# Altium schematic symbol library DANCE_LIB_REV2.SchLib: 136 symbols (part 1 of 2)
Pins are listed as number, name and electrical type; pins without a type are passive.

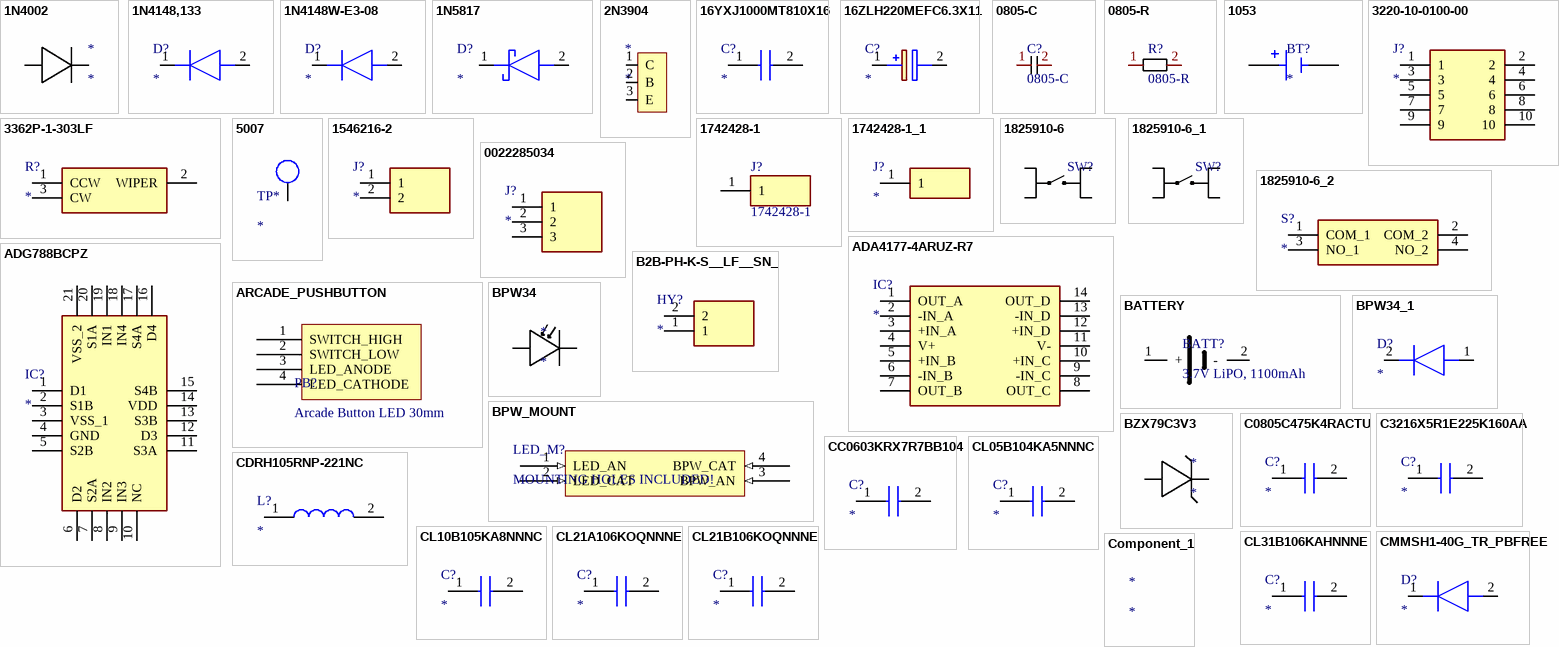
[diagram p0: symbols 1N4002 to Component_1]

## 1N4002
designator *
Diode Standard Recovery Rectifier DO-41, 100V, 1.00A; Manufacturer: Diotec; Manufacturer Part Number: 1N4002; Supplier 1: Digikey; RoHS: Yes; Category: Rectifier Diodes; Stock 1: 36425; Pricing 1: 1=0.1, 10=0.073, 100=0.0492, 500=0.04344, 1000=0.03835 (USD); Mount: Through Hole; Case/Package: 100; Min Operating Temperature: -50°C; Max Operating Temperature: 175°C; Polarity: Standard; Packaging: Ammo Pack; RoHS Compliant: Yes; ComponentLink1URL: https://datasheet.ciiva.com/26325/162221-da-01-ml-1n4002-silizium-diode-de-en-26325266.pdf?src-supplier=Conrad; ComponentLink1Description: https://datasheet.ciiva.com/26325/162221-da-01-ml-1n4002-silizium-diode-de-en-26325266.pdf?src-supplier=Conrad; ComponentLink2URL: https://datasheet.ciiva.com/18711/1n400x-eng-tds-18711213.pdf?src-supplier=Distrelec; ComponentLink2Description: https://datasheet.ciiva.com/18711/1n400x-eng-tds-18711213.pdf?src-supplier=Distrelec; Supplier Part Number 1: 4878-1N4002CT-ND
footprint DIODE
pins: 1, 2

## 1N4148,133
designator D?
Diode; Manufacturer_Name: Nexperia; Manufacturer_Part_Number: 1N4148,133; Datasheet Link: https://assets.nexperia.com/documents/data-sheet/1N4148_1N4448.pdf; Mouser Part Number: 771-1N4148,133; Mouser Price/Stock: https://www.mouser.co.uk/ProductDetail/Nexperia/1N4148133?qs=elmhQ6eFu7hy8ApvpFxPZg%3D%3D; Arrow Part Number: 1N4148,133; Arrow Price/Stock: https://www.arrow.com/en/products/1n4148133/nxp-semiconductors
footprint DIOAD1165W56L425D185
pins: 1 K, 2 A

## 1N4148W-E3-08
designator D?
Diode; Manufacturer_Name: Vishay; Manufacturer_Part_Number: 1N4148W-E3-08; Datasheet Link: http://www.vishay.com/docs/85748/1n4148w.pdf; Height: 1.35mm; Mouser Part Number: 78-1N4148W-E3-08; Mouser Price/Stock: https://www.mouser.co.uk/ProductDetail/Vishay-Semiconductors/1N4148W-E3-08?qs=bTzheeSci6TVjpxfjjRVMw%3D%3D; Arrow Part Number: 1N4148W-E3-08; Arrow Price/Stock: https://www.arrow.com/en/products/1n4148w-e3-08/vishay?utm_currency=USD&region=europe
footprint SOD3716X135N
pins: 1 K, 2 A

## 1N5817
designator D?
Schottky Diode; Manufacturer_Name: Rectron; Manufacturer_Part_Number: 1N5817; Datasheet Link: https://www.arrow.com/en/products/1n5817/rectron; Arrow Part Number: 1N5817; Arrow Price/Stock: https://www.arrow.com/en/products/1n5817/rectron?region=nac
footprint DIOAD1410W90L470D235
pins: 1 K, 2 A

## 2N3904
designator *
Small Signal Bipolar Transistor, 0.2A I(C), 40V V(BR)CEO, 1-Element, NPN, Silicon, TO-92; Manufacturer: Diotec; Manufacturer Part Number: 2N3904; Supplier 1: Digikey; RoHS: Yes; Category: BJTs; Pricing 1: 1=0.13, 10=0.078, 100=0.0478, 500=0.03448, 1000=0.03015, 2000=0.02649 (USD); Case/Package: TO-92; Weight: 336mg; Packaging: Ammo Pack; RoHS Compliant: Yes; ComponentLink1URL: http://datasheet.octopart.com/2N3904-Diotec-datasheet-20747533.pdf?src-supplier=Onlinecomponents.com; ComponentLink1Description: http://datasheet.octopart.com/2N3904-Diotec-datasheet-20747533.pdf?src-supplier=Onlinecomponents.com; ComponentLink2URL: http://datasheet.octopart.com/2N3904-Diotec-datasheet-20747533.pdf?src-supplier=Mouser; ComponentLink2Description: http://datasheet.octopart.com/2N3904-Diotec-datasheet-20747533.pdf?src-supplier=Mouser; ComponentLink3URL: http://datasheet.octopart.com/2N3904-Diotec-datasheet-20747533.pdf?src-supplier=Distrelec; ComponentLink3Description: http://datasheet.octopart.com/2N3904-Diotec-datasheet-20747533.pdf?src-supplier=Distrelec; ComponentLink4URL: http://datasheet.octopart.com/2N3904-Diotec-datasheet-20747533.pdf?src-supplier=Verical; ComponentLink4Description: http://datasheet.octopart.com/2N3904-Diotec-datasheet-20747533.pdf?src-supplier=Verical; ComponentLink5URL: https://datasheet.octopart.com/2N3904-Diotec-datasheet-113239676.pdf?src-supplier=TME; ComponentLink5Description: https://datasheet.octopart.com/2N3904-Diotec-datasheet-113239676.pdf?src-supplier=TME; ComponentLink6URL: http://datasheet.octopart.com/2N3904-Diotec-datasheet-20747533.pdf?src-supplier=DComponents; ComponentLink6Description: http://datasheet.octopart.com/2N3904-Diotec-datasheet-20747533.pdf?src-supplier=DComponents; ComponentLink7URL: https://datasheet.octopart.com/2N3904-Diotec-datasheet-168809475.pdf?src-supplier=SOS+electronic; ComponentLink7Description: https://datasheet.octopart.com/2N3904-Diotec-datasheet-168809475.pdf?src-supplier=SOS+electronic; ComponentLink8URL: http://datasheet.octopart.com/2N3904-Diotec-datasheet-20747533.pdf?src-supplier=Electro+Sonic; ComponentLink8Description: http://datasheet.octopart.com/2N3904-Diotec-datasheet-20747533.pdf?src-supplier=Electro+Sonic; Supplier Part Number 1: 4878-2N3904CT-ND
footprint NPN TRANSITOR
pins: 1 C, 2 B, 3 E

## 16YXJ1000MT810X16
designator C?
Capacitor; Manufacturer_Name: Rubycon; Manufacturer_Part_Number: 16YXJ1000MT810X16; Datasheet Link: https://4donline.ihs.com/images/VipMasterIC/IC/RUBY/RUBY-S-A0012706121/RUBY-S-A0012962284-1.pdf?hkey=EF798316E3902B6ED9A73243A3159BB0; Height: 17.5mm; Arrow Part Number: 16YXJ1000MT810X16; Arrow Price/Stock: null?utm_currency=USD&region=nac
footprint CAPPRD500W60D1025H1750
pins: 1 +, 2 -

## 16ZLH220MEFC6.3X11
designator C?
Capacitor Polarised; Manufacturer_Name: Rubycon; Manufacturer_Part_Number: 16ZLH220MEFC6.3X11; Datasheet Link: https://www.mouser.com/datasheet/2/977/e_ZLH-1601216.pdf; Height: 12.5mm; Mouser Part Number: 232-16ZLH220MEFC63X1; Mouser Price/Stock: https://www.mouser.co.uk/ProductDetail/Rubycon/16ZLH220MEFC6.3X11?qs=T3oQrply3y9dbIgPDRvJxA%3D%3D
footprint CAPPRD250W50D655H1250
pins: 1 +, 2 -

## 0805-C
designator C?
footprint SURFM CAPACITOR
pins: 1, 2

## 0805-R
designator R?
footprint SURFM RESISTOR
pins: 1, 2

## 1053
designator BT?
Battery Holder, Auto-In/EZ-Out, THM, Coin Cell, 24mm, Plastic, UL94V-0, Black | Keystone Electronics 1053; MP: 1053; SnapEDA_Link: https://www.snapeda.com/parts/1053/Keystone/view-part/?ref=snap; Package: Package; Value: *; MF: Keystone Electronics; Check_prices: https://www.snapeda.com/parts/1053/Keystone/view-part/?ref=eda
footprint BAT_1053
pins: N NEG, P POS

## 3220-10-0100-00
designator J?
Connector; Manufacturer_Name: CNC Tech; Manufacturer_Part_Number: 3220-10-0100-00; Datasheet Link: https://datasheet.datasheetarchive.com/originals/dk/DKDS-7/133059.pdf; Height: 5.6mm; Arrow Part Number: 3220-10-0100-00; Arrow Price/Stock: https://www.arrow.com/en/products/3220-10-0100-00/cnc-tech-llc?utm_currency=USD&region=nac
footprint 322010010000
pins: 1, 2, 3, 4, 5, 6, 7, 8, 9, 10

## 3362P-1-303LF
designator R?
Resistor; Manufacturer_Name: Bourns; Manufacturer_Part_Number: 3362P-1-303LF; Datasheet Link: https://datasheet.datasheetarchive.com/originals/distributors/SFDatasheet-6/sf-000139931.pdf; Mouser Part Number: 652-3362P-1-303LF; Mouser Price/Stock: https://www.mouser.co.uk/ProductDetail/Bourns/3362P-1-303LF?qs=Z6TheJuxhEr3uHsohP3p0g%3D%3D; Arrow Part Number: 3362P-1-303LF; Arrow Price/Stock: https://www.arrow.com/en/products/3362p-1-303lf/bourns
footprint 3362P_1
pins: 1 CCW, 2 WIPER, 3 CW

## 5007
designator TP*
MS27478 - Connectors Receptacle Electrical Solder Mounting Solder Type Hermetic Seal 38999 Series II; Manufacturer: Keystone Electronics; Manufacturer Part Number: 5007; Plating: Silver; Body Material: Bronze,PBT; Insulation: Insulated; Outside Diameter: 3.18mm; Inside Diameter: 1.78mm; Hole Diameter: 1.6mm; Supplier 1: Digikey; RoHS: Yes; Category: Connectors; Stock 1: 45397; Pricing 1: 1=0.39, 10=0.293, 25=0.2624, 100=0.2223, 500=0.18446, 1000=0.1739, 2500=0.1542, 5000=0.14312 (USD); Mount: PCB,Through Hole; Contact Material: Bronze; Contact Plating: Tin,Silver; Color: White; Material: Nylon,Bronze; Insulation Material: Nylon; Package Quantity: 100; Packaging: Bulk; Series: THM; Length: 8.89mm; Height: 0.35inch; Reach SVHC Compliant: No; Lead Free: Lead Free; Flammability Rating: UL94 V-0; RoHS Compliant: Yes; ComponentLink1URL: https://datasheet.ciiva.com/2917/m60-2p60-2917638.pdf?src-supplier=Digikey; ComponentLink1Description: https://datasheet.ciiva.com/2917/m60-2p60-2917638.pdf?src-supplier=Digikey; ComponentLink2URL: https://datasheet.ciiva.com/22631/1703983-22631109.pdf?src-supplier=Element14; ComponentLink2Description: https://datasheet.ciiva.com/22631/1703983-22631109.pdf?src-supplier=Element14; ComponentLink3URL: https://datasheet.ciiva.com/16884/70182825-16884255.pdf?src-supplier=Allied+Electronics; ComponentLink3Description: https://datasheet.ciiva.com/16884/70182825-16884255.pdf?src-supplier=Allied+Electronics; Supplier Part Number 1: 36-5007-ND
footprint TEST POINT
pins: 1

## 1546216-2
designator J?
Connector; Manufacturer_Name: TE Connectivity; Manufacturer_Part_Number: 1546216-2; Datasheet Link: https://www.te.com/commerce/DocumentDelivery/DDEController?Action=srchrtrv&DocNm=1-1773458-1_EURO_STYLE_QRG&DocType=Data%20Sheet&DocLang=English&PartCntxt=1546216-2&DocFormat=pdf; Height: 10mm; Mouser Part Number: 571-1546216-2; Mouser Price/Stock: https://www.mouser.co.uk/ProductDetail/TE-Connectivity/1546216-2?qs=Lxq28tKK6BMEq1xb2m0gjg%3D%3D; Arrow Part Number: 1546216-2; Arrow Price/Stock: https://www.arrow.com/en/products/1546216-2/te-connectivity?region=nac
footprint SHDR2W100P0X500_1X2_1000X820X1000P
pins: 1, 2

## 1742428-1
designator J?
Connector; Manufacturer_Name: TE Connectivity; Datasheet Link: https://www.te.com/commerce/DocumentDelivery/DDEController?Action=showdoc&DocId=Customer+Drawing%7F1742428%7FB%7Fpdf%7FEnglish%7FENG_CD_1742428_B_baseFilename.pdf%7F1742428-1; Height: 7.62mm; Manufacturer_Part_Number: 1742428-1; Mouser Part Number: 571-1742428-1; Mouser Price/Stock: https://www.mouser.co.uk/ProductDetail/TE-Connectivity-AMP/1742428-1?qs=%252BGGIKoiLAWkw3iMz3TrvdA%3D%3D; Arrow Part Number: 1742428-1; Arrow Price/Stock: https://www.arrow.com/en/products/1742428-1/te-connectivity?region=nac
footprint 17424281
footprint 17424281
pins: 1

## 1742428-1_1
designator J?
Connector; Manufacturer_Name: TE Connectivity; Manufacturer_Part_Number: 1742428-1; Datasheet Link: https://www.te.com/commerce/DocumentDelivery/DDEController?Action=showdoc&DocId=Customer+Drawing%7F1742428%7FB%7Fpdf%7FEnglish%7FENG_CD_1742428_B_baseFilename.pdf%7F1742428-1; Height: 7.62mm; Mouser Part Number: 571-1742428-1; Mouser Price/Stock: https://www.mouser.co.uk/ProductDetail/TE-Connectivity-AMP/1742428-1?qs=%252BGGIKoiLAWkw3iMz3TrvdA%3D%3D; Arrow Part Number: 1742428-1; Arrow Price/Stock: https://www.arrow.com/en/products/1742428-1/te-connectivity?region=nac
footprint 17424281
pins: 1

## 1825910-6
designator SW?  (value not drawn)
Switch Push Button OFF (ON) SPST Round Button 0.05A 24VDC Momentary Contact PC Pins Thru-Hole; MP: 1825910-6; MF: TE Connectivity; Value: *; Package: None; Check_prices: https://www.snapeda.com/parts/1825910-6/TE+Connectivity+ALCOSWITCH+Switches/view-part/?ref=eda; SnapEDA_Link: https://www.snapeda.com/parts/1825910-6/TE+Connectivity+ALCOSWITCH+Switches/view-part/?ref=snap; Digi-Key_Part_Number: 450-1650-ND; Purchase-URL: https://pricing.snapeda.com/search/part/1825910-6/?ref=eda
footprint SW_1825910-6-4
pins: 1, 2, 3, 4

## 1825910-6_1
designator SW?  (value not drawn)
Switch Push Button OFF (ON) SPST Round Button 0.05A 24VDC Momentary Contact PC Pins Thru-Hole; MP: 1825910-6; MF: TE Connectivity; Value: *; Package: None; Check_prices: https://www.snapeda.com/parts/1825910-6/TE+Connectivity+ALCOSWITCH+Switches/view-part/?ref=eda; SnapEDA_Link: https://www.snapeda.com/parts/1825910-6/TE+Connectivity+ALCOSWITCH+Switches/view-part/?ref=snap; Digi-Key_Part_Number: 450-1650-ND; Purchase-URL: https://pricing.snapeda.com/search/part/1825910-6/?ref=eda
footprint SW_1825910-6-4
pins: 1, 2, 3, 4

## 1825910-6_2
designator S?
Switch; Manufacturer_Name: TE Connectivity; Manufacturer_Part_Number: 1825910-6; Datasheet Link: https://www.te.com/commerce/DocumentDelivery/DDEController?Action=srchrtrv&DocNm=1308111-1_SWITCHES_CORE_PROGRAM_CATALOG&DocType=Catalog%20Section&DocLang=English&PartCntxt=1825910-6&DocFormat=pdf; Height: 5.3mm; Mouser Part Number: 650-1825910-6; Mouser Price/Stock: https://www.mouser.co.uk/ProductDetail/TE-Connectivity/1825910-6?qs=A6cQTCBcXncisYDS1KbpGA%3D%3D; Arrow Part Number: 1825910-6; Arrow Price/Stock: https://www.arrow.com/en/products/1825910-6/te-connectivity?utm_currency=USD&region=europe
footprint 18259106
pins: 1 COM_1, 2 COM_2, 3 NO_1, 4 NO_2

## 0022285034
designator J?
Connector; Manufacturer_Name: Molex; Manufacturer_Part_Number: 0022285034; Datasheet Link: https://www.molex.com/content/dam/molex/molex-dot-com/products/automated/en-us/salesdrawingpdf/423/42375/022285034_sd.pdf?inline; Height: 10.67mm; Arrow Part Number: 0022285034; Arrow Price/Stock: https://www.arrow.com/en/products/0022285034/molex?utm_currency=USD&region=nac
footprint 0022285034
pins: 1, 2, 3

## ADA4177-4ARUZ-R7
designator IC?
Integrated Circuit; Manufacturer_Name: Analog Devices; Manufacturer_Part_Number: ADA4177-4ARUZ-R7; Datasheet Link: https://www.arrow.com/en/products/ada4177-4aruz-r7/analog-devices; Height: 1.2mm; Mouser Part Number: 584-ADA4177-4ARUZ-R7; Mouser Price/Stock: https://www.mouser.co.uk/ProductDetail/Analog-Devices/ADA4177-4ARUZ-R7?qs=xbTpb2TSnD%252Bcwii%2FejZCvQ%3D%3D; Arrow Part Number: ADA4177-4ARUZ-R7; Arrow Price/Stock: https://www.arrow.com/en/products/ada4177-4aruz-r7/analog-devices
footprint SOP65P640X120-14N
pins: 1 OUT_A, 2 -IN_A, 3 +IN_A, 4 V+, 5 +IN_B, 6 -IN_B, 7 OUT_B, 8 OUT_C, 9 -IN_C, 10 +IN_C, 11 V-, 12 +IN_D, 13 -IN_D, 14 OUT_D

## ADG788BCPZ
designator IC?
Integrated Circuit; Manufacturer_Name: Analog Devices; Manufacturer_Part_Number: ADG788BCPZ; Datasheet Link: http://www.analog.com/media/en/technical-documentation/data-sheets/ADG786_788.pdf; Height: 0.8mm; Mouser Part Number: 584-ADG788BCPZ; Mouser Price/Stock: https://www.mouser.co.uk/ProductDetail/Analog-Devices/ADG788BCPZ?qs=BpaRKvA4VqHhv0Hb%252B0xI%2FQ%3D%3D; Arrow Part Number: ADG788BCPZ; Arrow Price/Stock: https://www.arrow.com/en/products/adg788bcpz/analog-devices?utm_currency=USD&region=europe
footprint QFN50P400X400X80-21N-D
pins: 1 D1, 2 S1B, 3 VSS_1, 4 GND, 5 S2B, 6 D2, 7 S2A, 8 IN2, 9 IN3, 10 NC, 11 S3A, 12 D3, 13 S3B, 14 VDD, 15 S4B, 16 D4, 17 S4A, 18 IN4, 19 IN1, 20 S1A, 21 VSS_2

## ARCADE_PUSHBUTTON
designator PB?, comment Arcade Button LED 30mm
Ausleaf. 5 Volt LED light. Fits standard 28-30mm button hole
pins: 1 SWITCH_HIGH, 2 SWITCH_LOW, 3 LED_ANODE, 4 LED_CATHODE

## B2B-PH-K-S__LF__SN_
designator HY?
Circulator or Directional Coupler; Manufacturer_Name: JST (JAPAN SOLDERLESS TERMINALS); Manufacturer_Part_Number: B2B-PH-K-S (LF)(SN); Datasheet Link: http://www.jst-mfg.com/product/pdf/eng/ePH.pdf; Height: 6mm
footprint B2BPHKSLFSN
pins: 1, 2

## BATTERY
designator BATT?, comment 3.7V LiPO, 1100mAh
pins: 1 +, 2 -

## BPW34
designator *
IR + Visible Light Si Photodiode, 65 deg, Through-hole | Siliconix / Vishay BPW34; Wavelength: 900nm; Viewing Angle: 130°; Rise Time: 100ns; Reverse Breakdown Voltage: 60V; Lens Style: Clear; Max Power Dissipation: 215mW; Diode Type: PIN; Dark Current: 2nA; Supplier 1: Digikey; Manufacturer: Vishay; Manufacturer Part Number: BPW34; RoHS: Yes; Category: Photodiodes; Stock 1: 7880; Pricing 1: 1=1.23, 10=0.867, 100=0.6467, 500=0.5488, 1000=0.51676, 3000=0.47566, 6000=0.45477, 12000=0.4371 (USD); Mount: Through Hole,PCB; Case/Package: DIP; Number of Pins: 2; Contact Plating: Tin; Min Operating Temperature: -40°C; Max Operating Temperature: 100°C; Package Quantity: 3000; Packaging: Bulk; Reverse Voltage (DC): 60V; Fall Time: 100ns; Power Dissipation: 215mW; Breakdown Voltage: 60V; Max Reverse Voltage (DC): 60V; Series: -; Length: 4.5mm; Width: 4.3mm; Height: 2mm; Radiation Hardening: No; Lead Free: Lead Free; RoHS Compliant: Yes; Reach SVHC Compliant: Unknown; ComponentLink1URL: https://datasheet.ciiva.com/25620/0900766b80de9fc5-25620357.pdf?src-supplier=Rs; ComponentLink1Description: https://datasheet.ciiva.com/25620/0900766b80de9fc5-25620357.pdf?src-supplier=Rs; ComponentLink2URL: https://datasheet.ciiva.com/1248/33605-1248690.pdf?src-supplier=Element14; ComponentLink2Description: https://datasheet.ciiva.com/1248/33605-1248690.pdf?src-supplier=Element14; ComponentLink3URL: https://datasheet.ciiva.com/1249/bpw34-1249073.pdf?src-supplier=Element14; ComponentLink3Description: https://datasheet.ciiva.com/1249/bpw34-1249073.pdf?src-supplier=Element14; ComponentLink4URL: https://datasheet.ciiva.com/4269/2bpw34-4269812.pdf?src-supplier=Arrow+Electronics; ComponentLink4Description: https://datasheet.ciiva.com/4269/2bpw34-4269812.pdf?src-supplier=Arrow+Electronics; ComponentLink5URL: https://datasheet.ciiva.com/4697/bpw34-79369-4697616.pdf?src-supplier=Mouser; ComponentLink5Description: https://datasheet.ciiva.com/4697/bpw34-79369-4697616.pdf?src-supplier=Mouser; ComponentLink6URL: https://datasheet.ciiva.com/1336/6514-1336219.pdf?src-supplier=Newark; ComponentLink6Description: https://datasheet.ciiva.com/1336/6514-1336219.pdf?src-supplier=Newark; ComponentLink7URL: https://datasheet.ciiva.com/2819/bpw34-2819744.pdf?src-supplier=Digikey; ComponentLink7Description: https://datasheet.ciiva.com/2819/bpw34-2819744.pdf?src-supplier=Digikey; ComponentLink8URL: https://datasheet.ciiva.com/1248/bpw34-1248686.pdf?src-supplier=Element14; ComponentLink8Description: https://datasheet.ciiva.com/1248/bpw34-1248686.pdf?src-supplier=Element14; ComponentLink9URL: https://datasheet.ciiva.com/8084/bpw34-8084840.pdf?src-supplier=Avnet; ComponentLink9Description: https://datasheet.ciiva.com/8084/bpw34-8084840.pdf?src-supplier=Avnet; ComponentLink10URL: https://datasheet.ciiva.com/1335/1809684-1335889.pdf?src-supplier=Newark; ComponentLink10Description: https://datasheet.ciiva.com/1335/1809684-1335889.pdf?src-supplier=Newark; Supplier Part Number 1: 751-1015-ND
footprint PhotoDiode
pins: 1, 2

## BPW34_1
designator D?
Diode; Manufacturer_Name: Vishay; Manufacturer_Part_Number: BPW34; Datasheet Link: http://www.farnell.com/datasheets/2046123.pdf; Mouser Part Number: 782-BPW34; Mouser Price/Stock: https://www.mouser.co.uk/ProductDetail/Vishay-Semiconductors/BPW34?qs=5N7VPDfziMSKXPRYeLTZOQ%3D%3D; Arrow Part Number: BPW34; Arrow Price/Stock: https://www.arrow.com/en/products/bpw34/vishay?region=europe
footprint BPW34
pins: 1 A, 2 K

## BPW_MOUNT
designator LED_M?, comment MOUNTING HOLES INCLUDED!
pins: 1 LED_AN (in), 2 LED_CAT (in), 3 BPW_AN (in), 4 BPW_CAT (in)

## BZX79C3V3
designator *
BZX79C Series 500 mW 3.3 V 100 mA Through Hole Zener Diode - DO-35; Manufacturer: ON Semiconductor / Fairchild; Manufacturer Part Number: BZX79C3V3; Zener Voltage: 3.3V; Power Dissipation: 500mW; Capacitance: 200pF; Impedance: 95R; Max Reverse Leakage Current: 25uA; Forward Voltage: 1.5V; Tolerance: 5%; Test Current: 5mA; Supplier 1: Digikey; RoHS: Yes; Category: Zener Diodes; Stock 1: 3692; Pricing 1: 1=0.12, 10=0.078, 100=0.029, 500=0.027, 1000=0.025 (USD); Mount: Through Hole; Case/Package: DO-35; Number of Pins: 2; Weight: 80g; Min Operating Temperature: -65°C; Max Operating Temperature: 200°C; Packaging: Bulk; Power Rating: 500mW; Voltage Rating (DC): 3.3V; Breakdown Voltage: 3.3V; Max Power Dissipation: 500mW; Working Voltage: 3.3V; Max Reverse Current: 25uA; Series: -; Diameter: 1.91mm; Length: 4.56mm; Reach SVHC Compliant: No; Lead Free: Lead Free; RoHS Compliant: Yes; ComponentLink1URL: https://datasheet.ciiva.com/25624/0900766b810c0800-25624624.pdf?src-supplier=Rs; ComponentLink1Description: https://datasheet.ciiva.com/25624/0900766b810c0800-25624624.pdf?src-supplier=Rs; ComponentLink2URL: https://datasheet.ciiva.com/897/bzx79c10-897269.pdf?src-supplier=Digikey; ComponentLink2Description: https://datasheet.ciiva.com/897/bzx79c10-897269.pdf?src-supplier=Digikey; ComponentLink3URL: https://datasheet.ciiva.com/8059/76520-8059737.pdf?src-supplier=Element14; ComponentLink3Description: https://datasheet.ciiva.com/8059/76520-8059737.pdf?src-supplier=Element14; ComponentLink4URL: https://datasheet.ciiva.com/8059/76520-8059740.pdf?src-supplier=Element14; ComponentLink4Description: https://datasheet.ciiva.com/8059/76520-8059740.pdf?src-supplier=Element14; ComponentLink5URL: https://datasheet.ciiva.com/8059/76520-8059742.pdf?src-supplier=Element14; ComponentLink5Description: https://datasheet.ciiva.com/8059/76520-8059742.pdf?src-supplier=Element14; Supplier Part Number 1: BZX79C3V3-ND
footprint Zener Diode
pins: 1, 2

## C0805C475K4RACTU
designator C?
Capacitor; Manufacturer_Name: KEMET; Manufacturer_Part_Number: C0805C475K4RACTU; Datasheet Link: https://content.kemet.com/datasheets/KEM_C1002_X7R_SMD.pdf; Height: 1.1mm; Mouser Part Number: 80-C0805C475K4R; Mouser Price/Stock: https://www.mouser.co.uk/ProductDetail/KEMET/C0805C475K4RACTU?qs=iP0bYSAMAFomlmlmK2IJkg%3D%3D; Arrow Part Number: C0805C475K4RACTU; Arrow Price/Stock: https://www.arrow.com/en/products/c0805c475k4ractu/kemet-corporation?region=nac
footprint C0805
pins: 1, 2

## C3216X5R1E225K160AA
designator C?
Capacitor; Manufacturer_Name: TDK; Manufacturer_Part_Number: C3216X5R1E225K160AA; Datasheet Link: https://product.tdk.com/info/en/catalog/datasheets/mlcc_commercial_midvoltage_en.pdf; Height: 1.8mm; Mouser Part Number: 810-C3216X5R1E225K; Mouser Price/Stock: https://www.mouser.com/Search/Refine.aspx?Keyword=810-C3216X5R1E225K; Arrow Part Number: C3216X5R1E225K160AA; Arrow Price/Stock: https://www.arrow.com/en/products/c3216x5r1e225k160aa/tdk
footprint CAPC3216X180N
pins: 1, 2

## CC0603KRX7R7BB104
designator C?
Capacitor; Manufacturer_Name: YAGEO; Manufacturer_Part_Number: CC0603KRX7R7BB104; Datasheet Link: https://www.yageo.com/en/Chart/Download/pdf/CC0603KRX7R7BB104; Height: 0.9mm; Mouser Part Number: 603-CC603KRX7R7BB104; Mouser Price/Stock: https://www.mouser.co.uk/ProductDetail/YAGEO/CC0603KRX7R7BB104?qs=AgBp2OyFlx8KPmNTlFoWXA%3D%3D; Arrow Part Number: CC0603KRX7R7BB104; Arrow Price/Stock: https://www.arrow.com/en/products/cc0603krx7r7bb104/yageo?utm_currency=USD&region=europe
footprint CAPC1608X90N
pins: 1, 2

## CDRH105RNP-221NC
designator L?
Inductor; Manufacturer_Name: Sumida; Manufacturer_Part_Number: CDRH105RNP-221NC; Datasheet Link: http://products.sumida.com/products/pdf/CDRH105R.pdf; Height: 5.1mm; Mouser Part Number: 851-CDRH105RNP-221NC; Mouser Price/Stock: https://www.mouser.co.uk/ProductDetail/Sumida/CDRH105RNP-221NC?qs=yEEOfDmvQDXR2cQQPxrSOQ%3D%3D; Arrow Part Number: CDRH105RNP-221NC; Arrow Price/Stock: https://www.arrow.com/en/products/cdrh105rnp-221nc/sumida?region=nac
footprint CDRH105RNP221NC
pins: 1, 2

## CL05B104KA5NNNC
designator C?
Capacitor; Manufacturer_Name: SAMSUNG; Manufacturer_Part_Number: CL05B104KA5NNNC; Datasheet Link: https://datasheet.datasheetarchive.com/originals/distributors/DKDS-19/372989.pdf; Height: 0.55mm; Mouser Part Number: 187-CL05B104KA5NNNC; Mouser Price/Stock: https://www.mouser.co.uk/ProductDetail/Samsung-Electro-Mechanics/CL05B104KA5NNNC?qs=Efv9o2T6U88DLyyMSzjXSQ%3D%3D; Arrow Part Number: CL05B104KA5NNNC; Arrow Price/Stock: https://www.arrow.com/en/products/cl05b104ka5nnnc/samsung-electro-mechanics?region=nac
footprint CAPC1005X55N
pins: 1, 2

## CL10B105KA8NNNC
designator C?
Capacitor; Manufacturer_Name: SAMSUNG; Manufacturer_Part_Number: CL10B105KA8NNNC; Datasheet Link: https://datasheet.datasheetarchive.com/originals/distributors/Datasheets-DGA10/2410489.pdf; Height: 0.9mm; Mouser Part Number: 187-CL10B105KA8NNNC; Mouser Price/Stock: https://www.mouser.co.uk/ProductDetail/Samsung-Electro-Mechanics/CL10B105KA8NNNC?qs=349EhDEZ59qp%252BMgnTol5Nw%3D%3D; Arrow Part Number: CL10B105KA8NNNC; Arrow Price/Stock: https://www.arrow.com/en/products/cl10b105ka8nnnc/samsung-electro-mechanics?region=nac
footprint CAPC1608X90N
pins: 1, 2

## CL21A106KOQNNNE
designator C?
Capacitor; Manufacturer_Name: SAMSUNG; Manufacturer_Part_Number: CL21A106KOQNNNE; Datasheet Link: https://datasheet.datasheetarchive.com/originals/distributors/Datasheets_SAMA/0289c6d4f30f89b64e7dd5b6a9ee99f0.pdf; Height: 1.4mm; Mouser Part Number: 187-CL21A106KOQNNNE; Mouser Price/Stock: https://www.mouser.co.uk/ProductDetail/Samsung-Electro-Mechanics/CL21A106KOQNNNE?qs=349EhDEZ59qKIX0T0PKtPw%3D%3D; Arrow Part Number: CL21A106KOQNNNE; Arrow Price/Stock: https://www.arrow.com/en/products/cl21a106koqnnne/samsung-electro-mechanics?region=nac
footprint CAPC2012X140N
pins: 1, 2

## CL21B106KOQNNNE
designator C?
Capacitor; Manufacturer_Name: SAMSUNG; Manufacturer_Part_Number: CL21B106KOQNNNE; Datasheet Link: https://datasheet.datasheetarchive.com/originals/distributors/Datasheets_SAMA/a6a503886ec2e900bbf4e5d6e2f8e8b0.pdf; Height: 1.4mm; Mouser Part Number: 187-CL21B106KOQNNNE; Mouser Price/Stock: https://www.mouser.co.uk/ProductDetail/Samsung-Electro-Mechanics/CL21B106KOQNNNE?qs=349EhDEZ59r8qgLddyW2Yw%3D%3D; Arrow Part Number: CL21B106KOQNNNE; Arrow Price/Stock: https://www.arrow.com/en/products/cl21b106koqnnne/samsung-electro-mechanics
footprint CAPC2012X140N
pins: 1, 2

## CL31B106KAHNNNE
designator C?
Capacitor; Manufacturer_Name: SAMSUNG; Manufacturer_Part_Number: CL31B106KAHNNNE; Datasheet Link: https://datasheet.datasheetarchive.com/originals/distributors/Datasheets_SAMA/d94547340e0e9d2be5f415b64e4e2f0a.pdf; Height: 1.8mm; Mouser Part Number: 187-CL31B106KAHNNNE; Mouser Price/Stock: https://www.mouser.co.uk/ProductDetail/Samsung-Electro-Mechanics/CL31B106KAHNNNE?qs=349EhDEZ59r5EZhnLOTsYA%3D%3D; Arrow Part Number: CL31B106KAHNNNE; Arrow Price/Stock: https://www.arrow.com/en/products/cl31b106kahnnne/samsung-electro-mechanics?utm_currency=USD&region=europe
footprint CAPC3216X180N
pins: 1, 2

## CMMSH1-40G_TR_PBFREE
designator D?
Diode; Manufacturer_Name: Central Semiconductor; Manufacturer_Part_Number: CMMSH1-40G TR PBFREE; Datasheet Link: https://gr.mouser.com/datasheet/2/68/CSEMS03170_1-2539261.pdf; Height: 1.08mm; Mouser Part Number: 610-CMMSH1-40G; Mouser Price/Stock: https://www.mouser.co.uk/ProductDetail/Central-Semiconductor/CMMSH1-40G-TR-PBFREE?qs=u16ybLDytRamTmUeCAXv4w%3D%3D; Arrow Part Number: CMMSH1-40G TR PBFREE; Arrow Price/Stock: https://www.arrow.com/en/products/cmmsh1-40g-tr-pbfree/central-semiconductor
footprint SODFL3818X108N
pins: 1 K, 2 A

## Component_1
designator *

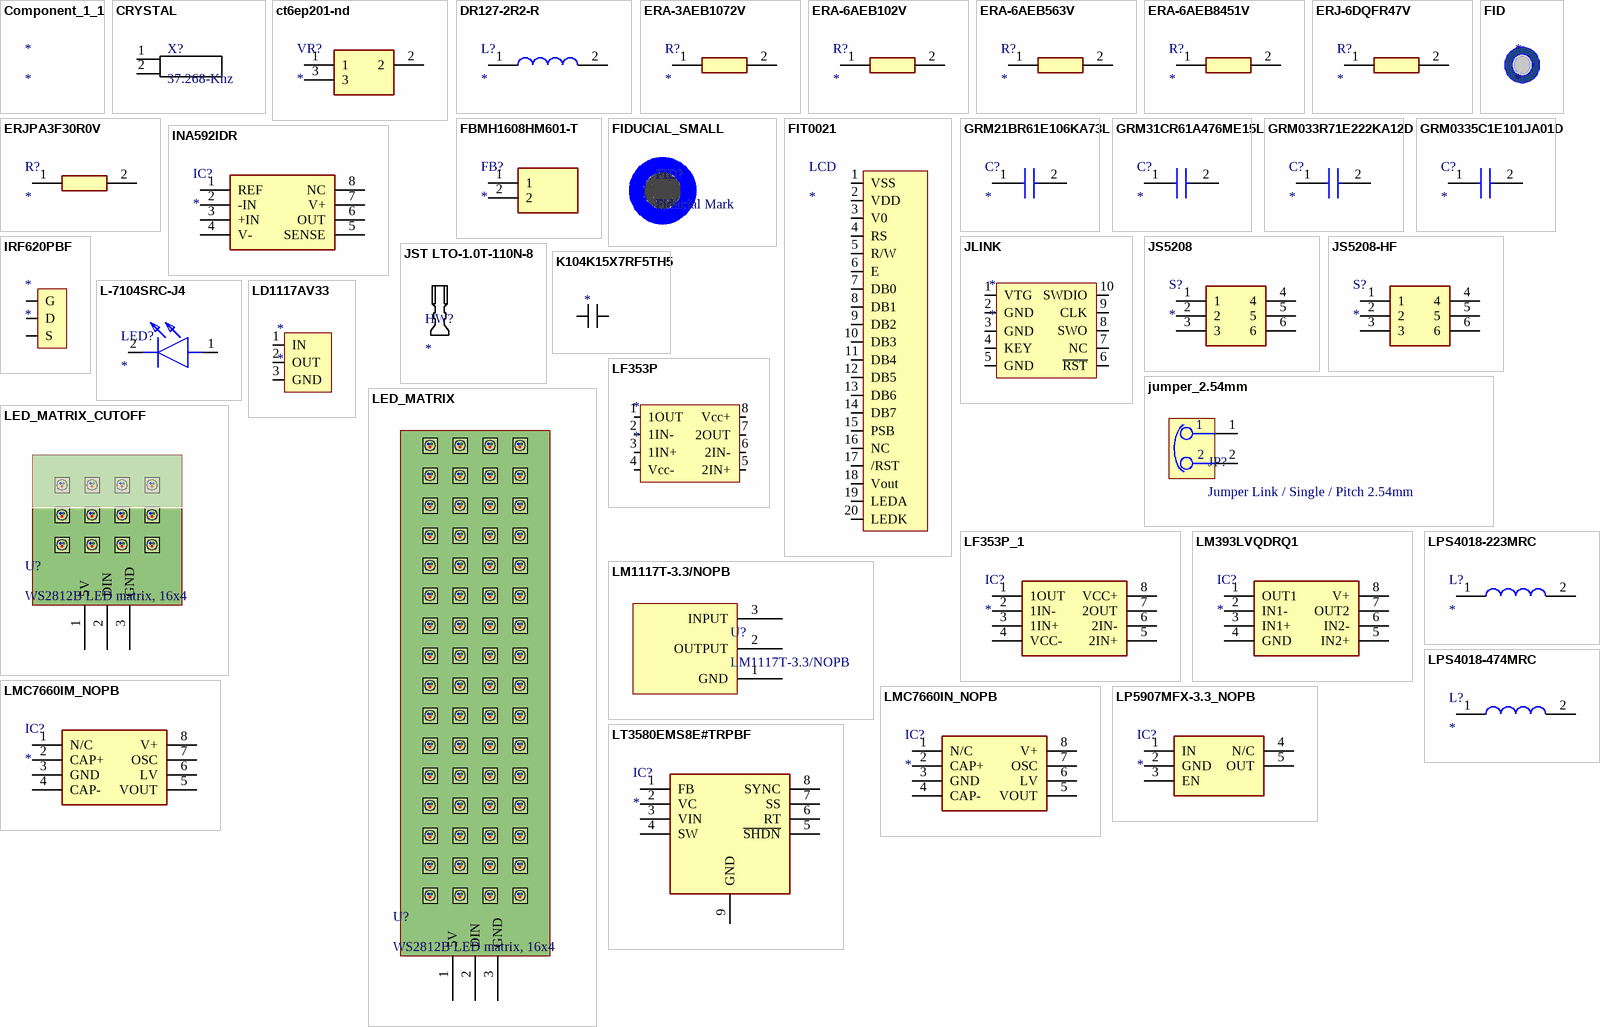
[diagram p1: symbols Component_1_1 to LT3580EMS8E#TRPBF]

## Component_1_1
designator *

## CRYSTAL
designator X?, comment 37.268-Khz
footprint CRYSTAL
pins: 1, 2

## ct6ep201-nd
designator VR?
Variable Resistor; Manufacturer_Name: Nidec Copal; Manufacturer_Part_Number: ct6ep201-nd; Datasheet Link: https://www.nidec-copal-electronics.com/e/catalog/trimmer/ct-6.pdf
footprint CT-6EP
pins: 1, 2, 3

## DR127-2R2-R
designator L?
Inductor; Manufacturer_Name: Eaton; Manufacturer_Part_Number: DR127-2R2-R; Datasheet Link: https://www.eaton.com/content/dam/eaton/products/electronic-components/resources/data-sheet/eaton-dr-high-power-density-high-efficiency-shielded-drum-core-power-inductors-data-sheet.pdf; Height: 8mm; Mouser Part Number: 704-DR127-2R2-R; Mouser Price/Stock: https://www.mouser.co.uk/ProductDetail/Coiltronics-Eaton/DR127-2R2-R?qs=yzwxPInThYTHN3YSS9rsbA%3D%3D; Arrow Part Number: DR127-2R2-R; Arrow Price/Stock: https://www.arrow.com/en/products/dr127-2r2-r/eaton?region=nac
footprint INDPM125125X800N
pins: 1, 2

## ERA-3AEB1072V
designator R?
Resistor; Manufacturer_Name: Panasonic; Manufacturer_Part_Number: ERA-3AEB1072V; Datasheet Link: https://industrial.panasonic.com/cdbs/www-data/pdf/RDM0000/AOA0000C307.pdf; Height: 0.55mm; Mouser Part Number: 667-ERA-3AEB1072V; Mouser Price/Stock: https://www.mouser.co.uk/ProductDetail/Panasonic/ERA-3AEB1072V?qs=nuXzIS8loXFdc8N%2FoAZQRQ%3D%3D
footprint ERA3AEB101V
pins: 1, 2

## ERA-6AEB102V
designator R?
Resistor; Manufacturer_Name: Panasonic; Manufacturer_Part_Number: ERA-6AEB102V; Datasheet Link: https://industrial.panasonic.com/cdbs/www-data/pdf/RDM0000/AOA0000C307.pdf; Height: 0.6mm; Mouser Part Number: 667-ERA-6AEB102V; Mouser Price/Stock: https://www.mouser.co.uk/ProductDetail/Panasonic/ERA-6AEB102V?qs=1VWA5LkbEaodAYxyfKqGQw%3D%3D; Arrow Part Number: ERA-6AEB102V; Arrow Price/Stock: https://www.arrow.com/en/products/era6aeb102v/panasonic?region=nac
footprint ERA6AEB101V
pins: 1, 2

## ERA-6AEB563V
designator R?
Resistor; Manufacturer_Name: Panasonic; Manufacturer_Part_Number: ERA-6AEB563V; Datasheet Link: https://industrial.panasonic.com/cdbs/www-data/pdf/RDM0000/AOA0000C307.pdf; Height: 0.6mm; Mouser Part Number: 667-ERA-6AEB563V; Mouser Price/Stock: https://www.mouser.co.uk/ProductDetail/Panasonic/ERA-6AEB563V?qs=nho8PGNfA6p304qi14SLbA%3D%3D; Arrow Part Number: ERA-6AEB563V; Arrow Price/Stock: https://www.arrow.com/en/products/era-6aeb563v/panasonic?region=nac
footprint ERA6AEB101V
pins: 1, 2

## ERA-6AEB8451V
designator R?
Resistor; Manufacturer_Name: Panasonic; Manufacturer_Part_Number: ERA-6AEB8451V; Datasheet Link: https://industrial.panasonic.com/cdbs/www-data/pdf/RDM0000/AOA0000C307.pdf; Height: 0.6mm; Mouser Part Number: 667-ERA-6AEB8451V; Mouser Price/Stock: https://www.mouser.com/Search/Refine.aspx?Keyword=667-ERA-6AEB8451V
footprint ERA6AEB101V
pins: 1, 2

## ERJ-6DQFR47V
designator R?
Resistor; Manufacturer_Name: Panasonic; Manufacturer_Part_Number: ERJ-6DQFR47V; Datasheet Link: http://industrial.panasonic.com/cdbs/www-data/pdf/RDN0000/AOA0000C313.pdf; Mouser Part Number: 667-ERJ-6DQFR47V; Mouser Price/Stock: https://www.mouser.co.uk/ProductDetail/Panasonic/ERJ-6DQFR47V?qs=WO7YBshssFErZn4RyqgQ6w%3D%3D
footprint ERJ6_B_BW_R_LW_CW_D
pins: 1, 2

## ERJPA3F30R0V
designator R?
Resistor; Manufacturer_Name: Panasonic; Manufacturer_Part_Number: ERJPA3F30R0V; Datasheet Link: https://industrial.panasonic.com/cdbs/www-data/pdf/RDA0000/AOA0000C243.pdf; Height: 0.55mm; Arrow Part Number: ERJPA3F30R0V; Arrow Price/Stock: https://www.arrow.com/en/products/erj-pa3f30r0v/panasonic
footprint RESC1608X55N
pins: 1, 2

## FBMH1608HM601-T
designator FB?
Ferrite Bead; Manufacturer_Name: TAIYO YUDEN; Manufacturer_Part_Number: FBMH1608HM601-T; Datasheet Link: https://componentsearchengine.com/Datasheets/2/FBMH1608HM601-T.pdf; Height: 0.9mm; Mouser Part Number: 963-FBMH1608HM601-T; Mouser Price/Stock: https://www.mouser.co.uk/ProductDetail/TAIYO-YUDEN/FBMH1608HM601-T?qs=I6KAKw0tg2y6O4cu0afp%252BA%3D%3D; Arrow Part Number: FBMH1608HM601-T; Arrow Price/Stock: https://www.arrow.com/en/products/fbmh1608hm601-t/taiyo-yuden
footprint BEADC1608X90N
pins: 1, 2

## FID
designator *
Fiducial Marks
footprint FIDUCIALS

## FIDUCIAL_SMALL
designator FID?, comment Fiducial Mark
Small 1mm/40mil pad with 40mm soldermask clearance
footprint FIDUCIAL_SMALL (1mm fiducial, 2mm solder mask clearance)

## FIT0021
designator LCD
Disply, Lcd, 128X64, Paral/serial Arduino Comp, Blu Bk, 5V, ST7920; Manufacturer: DFRobot; Manufacturer Part Number: FIT0021; Supplier 1: Digikey; Pricing 1: 1=18 (USD); Supplier Part Number 1: 1738-FIT0021-ND
footprint LCD
pins: 1 VSS, 2 VDD, 3 V0, 4 RS, 5 R/W, 6 E, 7 DB0, 8 DB1, 9 DB2, 10 DB3, 11 DB4, 12 DB5, 13 DB6, 14 DB7, 15 PSB, 16 NC, 17 /RST, 18 Vout, 19 LEDA, 20 LEDK

## GRM21BR61E106KA73L
designator C?
Capacitor; Manufacturer_Name: Murata Electronics; Manufacturer_Part_Number: GRM21BR61E106KA73L; Datasheet Link: https://search.murata.co.jp/Ceramy/image/img/A01X/G101/ENG/GRM21BR61E106KA73-01A.pdf; Height: 1.45mm; Mouser Part Number: 81-GRM21BR61E106KA3L; Mouser Price/Stock: https://www.mouser.co.uk/ProductDetail/Murata-Electronics/GRM21BR61E106KA73L?qs=Uw8ySfEHS7LOsCQEzvRcNg%3D%3D; Arrow Part Number: GRM21BR61E106KA73L; Arrow Price/Stock: https://www.arrow.com/en/products/grm21br61e106ka73l/murata-manufacturing?utm_currency=USD&region=nac
footprint CAPC2012X145N
pins: 1, 2

## GRM31CR61A476ME15L
designator C?
Capacitor; Manufacturer_Name: Murata Electronics; Manufacturer_Part_Number: GRM31CR61A476ME15L; Datasheet Link: https://search.murata.co.jp/Ceramy/image/img/A01X/G101/ENG/GRM31CR61A476ME15-04A.pdf; Height: 1.25mm; Mouser Part Number: 81-GRM31CR61A476ME5L; Mouser Price/Stock: https://www.mouser.co.uk/ProductDetail/Murata-Electronics/GRM31CR61A476ME15L?qs=Uw8ySfEHS7LqTKNQpigOcw%3D%3D; Arrow Part Number: GRM31CR61A476ME15L; Arrow Price/Stock: https://www.arrow.com/en/products/grm31cr61a476me15l/murata-manufacturing?region=nac
footprint GRM31x
pins: 1, 2

## GRM033R71E222KA12D
designator C?
Capacitor; Manufacturer_Name: Murata Electronics; Manufacturer_Part_Number: GRM033R71E222KA12D; Datasheet Link: https://search.murata.co.jp/Ceramy/image/img/A01X/G101/ENG/GRM033R71E222KA12-01A.pdf; Height: 0.33mm; Mouser Part Number: 81-GRM033R71E222KA2D; Mouser Price/Stock: https://www.mouser.co.uk/ProductDetail/Murata-Electronics/GRM033R71E222KA12D?qs=2W5sgKM%2F372F4g7QHUiQ2w%3D%3D; Arrow Part Number: GRM033R71E222KA12D; Arrow Price/Stock: https://www.arrow.com/en/products/grm033r71e222ka12d/murata-manufacturing?region=nac
footprint CAPC0603X33N
pins: 1, 2

## GRM0335C1E101JA01D
designator C?
Capacitor; Manufacturer_Name: Murata Electronics; Manufacturer_Part_Number: GRM0335C1E101JA01D; Datasheet Link: https://search.murata.co.jp/Ceramy/image/img/A01X/G101/ENG/GRM0335C1E101JA01-01A.pdf; Height: 0.33mm; Mouser Part Number: 81-GRM0335C1E101JA1D; Mouser Price/Stock: https://www.mouser.co.uk/ProductDetail/Murata-Electronics/GRM0335C1E101JA01D?qs=lsk7mV%2FgRRIhY4z12C%2FxnQ%3D%3D; Arrow Part Number: GRM0335C1E101JA01D; Arrow Price/Stock: https://www.arrow.com/en/products/grm0335c1e101ja01d/murata-manufacturing?utm_currency=USD&region=europe
footprint GRM033D70J224ME01D
pins: 1, 2

## INA592IDR
designator IC?
Integrated Circuit; Manufacturer_Name: Texas Instruments; Manufacturer_Part_Number: INA592IDR; Datasheet Link: https://www.ti.com/lit/gpn/INA592; Height: 1.75mm; Mouser Part Number: 595-INA592IDR; Mouser Price/Stock: https://www.mouser.co.uk/ProductDetail/Texas-Instruments/INA592IDR?qs=Zz7%252BYVVL6bEFYkBEX%2FYuWQ%3D%3D; Arrow Part Number: INA592IDR; Arrow Price/Stock: https://www.arrow.com/en/products/ina592idr/texas-instruments?region=nac
footprint SOIC127P600X175-8N
pins: 1 REF, 2 -IN, 3 +IN, 4 V-, 5 SENSE, 6 OUT, 7 V+, 8 NC

## IRF620PBF
designator *
Single N-Channel 200 V 0.8 Ohms Flange Mount Power Mosfet - TO-220AB; Manufacturer: Vishay; Manufacturer Part Number: IRF620PBF; Rise Time: 22ns; Rds On Max: 800mR; Input Capacitance: 260pF; Nominal Vgs: 2V; Max Power Dissipation: 50W; Number of Elements: 1; Continuous Drain Current (ID): 5.2A; Drain to Source Voltage (Vdss): 200V; Gate to Source Voltage (Vgs): 20V; Fall Time: 13ns; Turn-Off Delay Time: 19ns; Turn-On Delay Time: 7.2ns; Recovery Time: 300ns; Voltage Rating (DC): 250V; Current: 52A; Polarization: N; Supplier 1: Digikey; RoHS: Yes; Category: MOSFETs; Stock 1: 572; Pricing 1: 1=0.96, 50=0.5584, 100=0.5426, 500=0.52688, 1000=0.49839, 2000=0.49417, 5000=0.4725, 10000=0.4625 (USD); Mount: Through Hole; Case/Package: TO-220AB; Number of Pins: 3; Weight: 0.211644oz; Min Operating Temperature: -55°C; Max Operating Temperature: 150°C; Packaging: Rail/Tube; Package Quantity: 1000; Drain to Source Resistance: 800mR; Threshold Voltage: 2V; Power Dissipation: 50W; Number of Channels: 1; Drain to Source Breakdown Voltage: 200V; Current Rating: 5.2A; Voltage: 200V; Polarity: N-CHANNEL; Drain-source On Resistance-Max: 800mR; Length: 10.41mm; Width: 4.7mm; Height: 9.01mm; Radiation Hardening: No; Lead Free: Lead Free; RoHS Compliant: Yes; Reach SVHC Compliant: Unknown; ComponentLink1URL: https://datasheet.ciiva.com/14110/ctirf620-data-en-14110686.pdf?src-supplier=Distrelec; ComponentLink1Description: https://datasheet.ciiva.com/14110/ctirf620-data-en-14110686.pdf?src-supplier=Distrelec; ComponentLink2URL: https://datasheet.ciiva.com/4439/sihf620-106584-4439552.pdf?src-supplier=Mouser; ComponentLink2Description: https://datasheet.ciiva.com/4439/sihf620-106584-4439552.pdf?src-supplier=Mouser; ComponentLink3URL: https://datasheet.ciiva.com/7643/81835-7643264.pdf?src-supplier=Element14; ComponentLink3Description: https://datasheet.ciiva.com/7643/81835-7643264.pdf?src-supplier=Element14; ComponentLink4URL: https://datasheet.ciiva.com/15137/getdatasheetpartid-84721-15137580.pdf?src-supplier=Verical; ComponentLink4Description: https://datasheet.ciiva.com/15137/getdatasheetpartid-84721-15137580.pdf?src-supplier=Verical; ComponentLink5URL: https://datasheet.ciiva.com/22671/1349027-22671625.pdf?src-supplier=Element14; ComponentLink5Description: https://datasheet.ciiva.com/22671/1349027-22671625.pdf?src-supplier=Element14; ComponentLink6URL: https://datasheet.ciiva.com/29325/162416-da-01-en-transistor-hexfet-irf620pbf-to-220-vis-29325931.pdf?src-supplier=Conrad; ComponentLink6Description: https://datasheet.ciiva.com/29325/162416-da-01-en-transistor-hexfet-irf620pbf-to-220-vis-29325931.pdf?src-supplier=Conrad; ComponentLink7URL: https://datasheet.ciiva.com/6386/sihf620-6386422.pdf?src-supplier=Digikey; ComponentLink7Description: https://datasheet.ciiva.com/6386/sihf620-6386422.pdf?src-supplier=Digikey; ComponentLink8URL: https://datasheet.ciiva.com/8114/sihf620-8114351.pdf?src-supplier=Avnet; ComponentLink8Description: https://datasheet.ciiva.com/8114/sihf620-8114351.pdf?src-supplier=Avnet; ComponentLink9URL: https://datasheet.ciiva.com/16455/sihf620-16455933.pdf?src-supplier=Future+Electronics; ComponentLink9Description: https://datasheet.ciiva.com/16455/sihf620-16455933.pdf?src-supplier=Future+Electronics; Supplier Part Number 1: IRF620PBF-ND
footprint VOLTAGE REGULATOR
pins: 1 G, 2 D, 3 S

## JLINK
designator *
Conn Shrouded Header (4 Sides) HDR 10 POS 1.27mm Solder ST Top Entry Thru-Hole; Manufacturer: CNC Tech; Manufacturer Part Number: 3220-10-0100-00; Number of Positions: 10; Current Rating: 1A; Number of Contacts: 10NUMBER; Supplier 1: Digikey; RoHS: Yes; Category: Headers and Wire Housings; Stock 1: 18235; Pricing 1: 1=0.64, 10=0.54, 100=0.4586, 500=0.40928, 3200=0.35902, 6400=0.34189, 12800=0.32558 (USD); Mount: Through Hole; Contact Material: Brass; Contact Shape: Square; Contact Finish - Mating: GOLD; Insulation Material: Nylon; Min Operating Temperature: -40°C; Max Operating Temperature: 105°C; Packaging: Tray; Number of Rows: 2; Termination: Solder; Connector Type: Header; Contact Type: Male Pin; Fastening Type: Pull; Series: -; Height: 5.6mm; RoHS Compliant: Yes; Flammability Rating: UL94 V-0; ComponentLink1URL: https://datasheet.ciiva.com/18655/3220-xx-0100-00-18655342.pdf?src-supplier=Digikey; ComponentLink1Description: https://datasheet.ciiva.com/18655/3220-xx-0100-00-18655342.pdf?src-supplier=Digikey; Supplier Part Number 1: 1175-1627-ND
footprint J-Link Connector
pins: 1 VTG, 2 GND, 3 GND, 4 KEY, 5 GND, 6 ~{RST}, 7 NC, 8 SWO, 9 CLK, 10 SWDIO

## JS5208
designator S?
Switch; Manufacturer_Name: E-Switch; Manufacturer_Part_Number: JS5208; Datasheet Link: https://configured-product-images.s3.amazonaws.com/2D/specs/JS5208.pdf; Height: 12.2mm; Mouser Part Number: 612-JS5208; Mouser Price/Stock: https://www.mouser.co.uk/ProductDetail/E-Switch/JS5208?qs=f57gQzlyLiqOzqNCAUlPQg%3D%3D
footprint JS5208
pins: 1, 2, 3, 4, 5, 6

## JS5208-HF
designator S?
Switch; Manufacturer_Name: E-Switch; Manufacturer_Part_Number: JS5208-HF; Datasheet Link: https://componentsearchengine.com/Datasheets/1/JS5208-HF.pdf; Height: 12.2mm; Mouser Part Number: 612-JS5208-HF; Mouser Price/Stock: https://www.mouser.co.uk/ProductDetail/E-Switch/JS5208-HF?qs=u4%252BEJ9urDATUziZULIUTnw%3D%3D
footprint JS5208
pins: 1, 2, 3, 4, 5, 6

## JST LTO-1.0T-110N-8
designator HW?
JST LTO Uninsulated Female Spade Connector / Receptacle / 2.8 x 0.5mm Tab Size 16-30-02

## jumper_2.54mm
designator JP?, comment Jumper Link / Single / Pitch 2.54mm
CONNECTOR : PCB Jumper Link / Single / Pitch 2.54mm / Black /shunt.  01-96-02
pins: 1, 2

## K104K15X7RF5TH5
designator *, comment ±10%, 50V, Ceramic  (value not drawn)
Manufacturer: Vishay BCcomponents; Manufacturer Part Number: K104K15X7RF5TH5; Capacitance: 100nF; Dielectric: X7R; Lead/Base Style: Formed Leads; Lead Diameter: 0.5mm; Lead Length: 30mm; Supplier 1: Digikey; RoHS: Yes; Category: Ceramic Capacitors; Stock 1: 532809; Mount: Through Hole,PCB; Case/Package: Dipped; Dielectric Material: Ceramic; Material: 4241ConductorMaterial; Weight: 0.005644oz; Min Operating Temperature: -55°C; Max Operating Temperature: 125°C; Packaging: Tape and Reel; Tolerance: 10%; Voltage Rating (DC): 50V; Termination: Radial; Series: K; Construction: RADIAL; Package Quantity: 1; Voltage Rating: 50V; Voltage: 50V; Voltage Rating (AC): 50V; Diameter: 500um; Length: 4mm; Width: 2.5mm; Height: 4mm; Lead Pitch: 5mm; Depth: 2.5mm; Height - Seated (Max): 0.257inch; Thickness: 2.6mm; RoHS Compliant: Yes; Lead Free: Lead Free; Reach SVHC Compliant: Unknown; ComponentLink1URL: https://datasheet.ciiva.com/145/kseries-145882.pdf?src-supplier=Digikey; ComponentLink1Description: https://datasheet.ciiva.com/145/kseries-145882.pdf?src-supplier=Digikey; ComponentLink2URL: https://datasheet.ciiva.com/145/kseries-145883.pdf?src-supplier=Digikey; ComponentLink2Description: https://datasheet.ciiva.com/145/kseries-145883.pdf?src-supplier=Digikey; ComponentLink3URL: https://datasheet.ciiva.com/7974/1756139-7974780.pdf?src-supplier=Element14; ComponentLink3Description: https://datasheet.ciiva.com/7974/1756139-7974780.pdf?src-supplier=Element14; ComponentLink4URL: https://datasheet.ciiva.com/46418/1756139-46418255.pdf?src-supplier=Element14; ComponentLink4Description: https://datasheet.ciiva.com/46418/1756139-46418255.pdf?src-supplier=Element14; ComponentLink5URL: https://datasheet.ciiva.com/16449/kseries-16449099.pdf?src-supplier=Future+Electronics; ComponentLink5Description: https://datasheet.ciiva.com/16449/kseries-16449099.pdf?src-supplier=Future+Electronics; ComponentLink6URL: https://datasheet.ciiva.com/18442/70121924-18442233.pdf?src-supplier=Allied+Electronics; ComponentLink6Description: https://datasheet.ciiva.com/18442/70121924-18442233.pdf?src-supplier=Allied+Electronics; Supplier Part Number 1: BC1101CT-ND
footprint CAPACITOR
pins: 1, 2

## L-7104SRC-J4
designator LED?
LED; Manufacturer_Name: Kingbright; Manufacturer_Part_Number: L-7104SRC-J4; Datasheet Link: https://componentsearchengine.com/Datasheets/2/L-7104SRC-J4.pdf; Mouser Part Number: N/A; Mouser Price/Stock: https://www.mouser.co.uk/ProductDetail/Kingbright/L-7104SRC-J4?qs=V4RdxCm2DEdVnVBn9j1m4A%3D%3D; Arrow Part Number: L-7104SRC-J4; Arrow Price/Stock: https://www.arrow.com/en/products/l-7104src-j4/kingbright
footprint T-1(3MM)
pins: 1 A, 2 K

## LD1117AV33
designator *
LD1117 Series 1 A 3.3 V Fixed Output Positive Voltage LDO Regulator - TO-220; Manufacturer: STMicroelectronics; Manufacturer Part Number: LD1117AV33; Number of Outputs: 1; Max Input Voltage: 10V; Output Voltage: 3.3V; Max Power Dissipation: 12W; Dropout Voltage: 1.15V; Output Current: 1A; Min Input Voltage: 5.3V; Max Output Current: 1.2A; Input Bias Current: 5mA; Quiescent Current: 10mA; Accuracy: 2%; Power Supply Rejection Ratio (PSRR): 75dB; Supplier 1: Mouser; RoHS: Yes; Category: Voltage Regulators - Linear; Stock 1: 1501; Pricing 1: 1=0.84, 10=0.613, 50=0.518, 100=0.448, 1000=0.365, 10000=0.332 (USD); Mount: Through Hole; Case/Package: TO; Number of Pins: 3; Min Operating Temperature: 0°C; Max Operating Temperature: 125°C; Package Quantity: 1000; Packaging: Rail/Tube; Nominal Output Voltage: 3.3V; Number of Regulators: 1; Polarity: Positive; Min Output Voltage: 3.3V; Output Type: Fixed; Series: -; Output Configuration: Positive; Length: 10.4mm; Width: 4.6mm; Height: 9.15mm; Reach SVHC Compliant: No; RoHS Compliant: Yes; ComponentLink1URL: https://datasheet.ciiva.com/16219/cd00002116-16219417.pdf?src-supplier=Future+Electronics; ComponentLink1Description: https://datasheet.ciiva.com/16219/cd00002116-16219417.pdf?src-supplier=Future+Electronics; ComponentLink2URL: https://datasheet.ciiva.com/2052/cd00002116-2052417.pdf?src-supplier=Digikey; ComponentLink2Description: https://datasheet.ciiva.com/2052/cd00002116-2052417.pdf?src-supplier=Digikey; ComponentLink3URL: https://datasheet.ciiva.com/3225/cd00002116-3225093.pdf?src-supplier=Avnet; ComponentLink3Description: https://datasheet.ciiva.com/3225/cd00002116-3225093.pdf?src-supplier=Avnet; ComponentLink4URL: https://datasheet.ciiva.com/1511/1732936-1511558.pdf?src-supplier=Element14; ComponentLink4Description: https://datasheet.ciiva.com/1511/1732936-1511558.pdf?src-supplier=Element14; Supplier Part Number 1: 511-LD1117AV33
footprint VOLTAGE REGULATOR
pins: 1 IN, 2 OUT, 3 GND

## LED_MATRIX
designator U?, comment WS2812B LED matrix, 16x4
pins: 1 5V, 2 DIN, 3 GND

## LED_MATRIX_CUTOFF
designator U?, comment WS2812B LED matrix, 16x4
pins: 1 5V, 2 DIN, 3 GND

## LF353P
designator *
Amplifier; Dual Operational; + 3.5 V (min.); 3.6 ma (typ.); + 30 V; PDIP; 0 Deg; Manufacturer: Texas Instruments; Manufacturer Part Number: LF353P; Number of Channels: 2; Bandwidth: 3MHz; Dual Supply Voltage: 9V; Voltage Gain: 100dB; Common Mode Rejection Ratio: 70dB; Slew Rate: 13V/µs; Max Dual Supply Voltage: 18V; Min Dual Supply Voltage: 3.5V; Max Power Dissipation: 500mW; Input Offset Voltage (Vos): 10mV; Input Bias Current: 200pA; Operating Supply Current: 3.6mA; Max Supply Current: 6.5mA; Supplier 1: Digikey; RoHS: Yes; Category: Amplifiers - Op Amps, Buffer, Instrumentation; Stock 1: 3112; Pricing 1: 1=0.65, 10=0.463, 50=0.3866, 100=0.3628, 250=0.3378, 500=0.32272, 1000=0.31029, 2500=0.29718, 5000=0.28927 (USD); Mount: Through Hole; Case/Package: PDIP; Number of Pins: 8; Min Operating Temperature: 0°C; Max Operating Temperature: 70°C; Packaging: Rail/Tube; Gain Bandwidth Product: 3MHz; Number of Circuits: 2; Package Quantity: 50; Unity Gain Bandwidth Product: 3MHz; Operating Supply Voltage: 18V; Number of Elements: 2; Power Dissipation: 500mW; Number of Amplifiers: 2; Series: -; Supply Current: 6.5mA; Technology: BIFET; Length: 9.81mm; Width: 6.35mm; Height: 4.57mm; Reach SVHC Compliant: No; Lead Free: Lead Free; RoHS Compliant: Yes; ComponentLink1URL: https://datasheet.ciiva.com/2973/slos012b-2973220.pdf?src-supplier=Avnet; ComponentLink1Description: https://datasheet.ciiva.com/2973/slos012b-2973220.pdf?src-supplier=Avnet; ComponentLink2URL: https://datasheet.ciiva.com/1487/1831470-1487782.pdf?src-supplier=Element14; ComponentLink2Description: https://datasheet.ciiva.com/1487/1831470-1487782.pdf?src-supplier=Element14; Supplier Part Number 1: 296-7139-5-ND
footprint Op-Amp 8 pins
pins: 1 1OUT, 2 1IN-, 3 1IN+, 4 Vcc-, 5 2IN+, 6 2IN-, 7 2OUT, 8 Vcc+

## LF353P_1
designator IC?
Integrated Circuit; Manufacturer_Name: Texas Instruments; Manufacturer_Part_Number: LF353P; Datasheet Link: http://www.ti.com/lit/ds/symlink/lf353.pdf; Height: 5.08mm; Mouser Part Number: 595-LF353P; Mouser Price/Stock: https://www.mouser.co.uk/ProductDetail/Texas-Instruments/LF353P?qs=EIjG%252BN7kn%252BnHJN43AgArjw%3D%3D; Arrow Part Number: LF353P; Arrow Price/Stock: https://www.arrow.com/en/products/lf353p/texas-instruments?utm_currency=USD&region=europe
footprint DIP794W53P254L959H508Q8N
pins: 1 1OUT, 2 1IN-, 3 1IN+, 4 VCC-, 5 2IN+, 6 2IN-, 7 2OUT, 8 VCC+

## LM393LVQDRQ1
designator IC?
Integrated Circuit; Manufacturer_Name: Texas Instruments; Manufacturer_Part_Number: LM393LVQDRQ1; Datasheet Link: https://www.ti.com/lit/gpn/lm393lv-q1; Height: 1.75mm; Mouser Part Number: 595-LM393LVQDRQ1; Mouser Price/Stock: https://www.mouser.co.uk/ProductDetail/Texas-Instruments/LM393LVQDRQ1?qs=IS%252B4QmGtzzqk8QFsvXuXMw%3D%3D; Arrow Part Number: LM393LVQDRQ1; Arrow Price/Stock: null?region=nac
footprint SOIC127P600X175-8N
pins: 1 OUT1, 2 IN1-, 3 IN1+, 4 GND, 5 IN2+, 6 IN2-, 7 OUT2, 8 V+

## LM1117T-3.3/NOPB
designator U?
800-mA 15-V linear voltage regulator ; 3-TO-220 0 to 125; Manufacturer: TI National Semiconductor; Number of Channels: 1NUMBER; Supplier 1: Digikey; Manufacturer Part Number: LM1117T-3.3/NOPB; RoHS: Yes; Category: Voltage Regulators - Linear; Stock 1: 4752; Pricing 1: 1=1.69, 10=1.515, 45=1.42911, 135=1.21763, 270=1.14333, 540=1.00041, 1035=0.82891, 2520=0.77174, 5040=0.74316 (USD); Thickness: 4.572mm; ComponentLink1URL: https://datasheet.ciiva.com/15111/getdatasheetpartid-67377-15111321.pdf?src-supplier=Verical; ComponentLink1Description: https://datasheet.ciiva.com/15111/getdatasheetpartid-67377-15111321.pdf?src-supplier=Verical; ComponentLink2URL: https://datasheet.ciiva.com/19480/242115-19480555.pdf?src-supplier=Jameco; ComponentLink2Description: https://datasheet.ciiva.com/19480/242115-19480555.pdf?src-supplier=Jameco; ComponentLink3URL: https://datasheet.ciiva.com/41457/001013630-da-01-en-ic-reg-ldo-lm1117t-3-3-nopb-to-220-3-tid-41457409.pdf?src-supplier=Conrad; ComponentLink3Description: https://datasheet.ciiva.com/41457/001013630-da-01-en-ic-reg-ldo-lm1117t-3-3-nopb-to-220-3-tid-41457409.pdf?src-supplier=Conrad; ComponentLink4URL: https://datasheet.ciiva.com/14150/ialm1117t-e-14150010.pdf?src-supplier=Distrelec; ComponentLink4Description: https://datasheet.ciiva.com/14150/ialm1117t-e-14150010.pdf?src-supplier=Distrelec; ComponentLink5URL: https://datasheet.ciiva.com/2047/lm1117-n-2047767.pdf?src-supplier=Digikey; ComponentLink5Description: https://datasheet.ciiva.com/2047/lm1117-n-2047767.pdf?src-supplier=Digikey; ComponentLink6URL: https://datasheet.ciiva.com/1511/1882372-1511717.pdf?src-supplier=Element14; ComponentLink6Description: https://datasheet.ciiva.com/1511/1882372-1511717.pdf?src-supplier=Element14; Supplier Part Number 1: LM1117T-3.3/NOPB-ND
footprint VOLTAGE REGULATOR
pins: 1 GND, 2 OUTPUT, 3 INPUT

## LMC7660IM_NOPB
designator IC?
Integrated Circuit; Manufacturer_Name: Texas Instruments; Manufacturer_Part_Number: LMC7660IM/NOPB; Datasheet Link: http://www.ti.com/lit/ds/symlink/lmc7660.pdf; Height: 1.75mm; Mouser Part Number: 926-LMC7660IM/NOPB; Mouser Price/Stock: https://www.mouser.co.uk/ProductDetail/Texas-Instruments/LMC7660IM-NOPB?qs=7lkVKPoqpbZi64kwFiQ%2F%252Bg%3D%3D; Arrow Part Number: LMC7660IM/NOPB; Arrow Price/Stock: https://www.arrow.com/en/products/lmc7660imnopb/texas-instruments
footprint SOIC127P600X175-8N
pins: 1 N/C, 2 CAP+, 3 GND, 4 CAP-, 5 VOUT, 6 LV, 7 OSC, 8 V+